# Altium footprint library TDK_SPM10065VT-330M-D.PcbLib: 1 footprints
Each footprint in its own frame and in the unit in brackets; x right, y up, seen from the top. Pads: shape width x height; smd on the part's side, far side on the other; paste and mask are expansions set on the pad; w line width, h text height; cw(c..) or ccw(c..) is an arc to the next point about the centre after c.
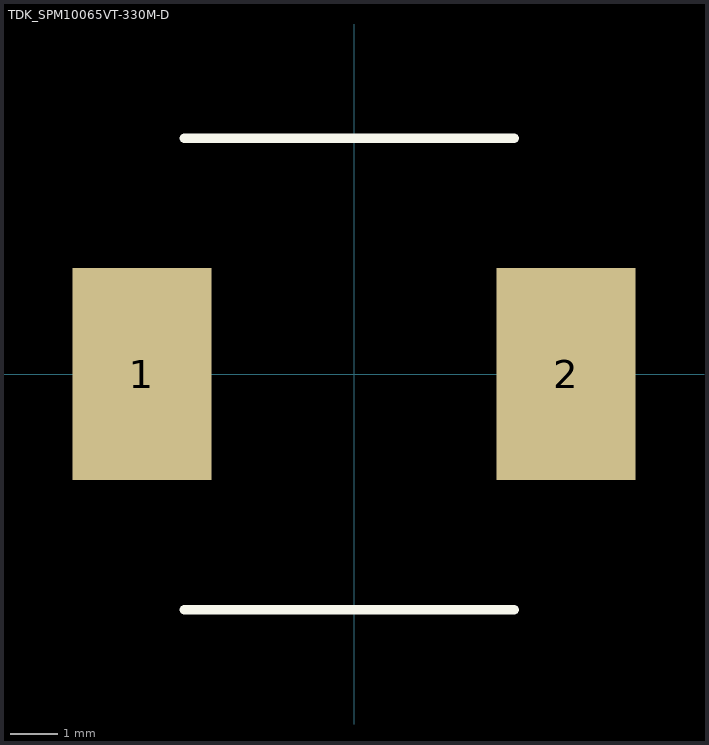
[diagram p0: the footprint, top view; thin cyan lines are the x and y axes]

## TDK_SPM10065VT-330M-D [mm]
pads (2):
  rect 2.95x4.5 smd: 1(-4.5,0) 2(4.5,0)
Top Overlay:
  lines w0.2: -3.6,-5 3.4,-5 ; -3.6,5 3.4,5
3D body: height 6.5, standoff 0, extent -5.25,-5 5.3,5